# Altium schematic symbol library PDTZ143ZT.Schlib: 1 symbol
Pins are listed as number, name and electrical type; pins without a type are passive.

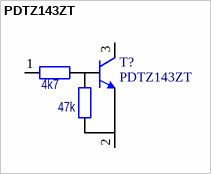
[diagram p0: symbol PDTZ143ZT]

## PDTZ143ZT
designator T?
Digital Transistor; назначение: транзистор; Потребление, Вт: 0,01; Datasheet: https://static.chipdip.ru/lib/583/DOC001583045.pdf; наименование: PDTZ143ZT
footprint SOT-23
pins: 1 B, 2 E, 3 C
text: 4k7; 47k